# Altium footprint library Kondensator_DIP.PcbLib: 222 footprints (part 3 of 14)
Each footprint in its own frame and in the unit in brackets; x right, y up, seen from the top. Pads: shape width x height; smd on the part's side, far side on the other; paste and mask are expansions set on the pad; w line width, h text height; cw(c..) or ccw(c..) is an arc to the next point about the centre after c.
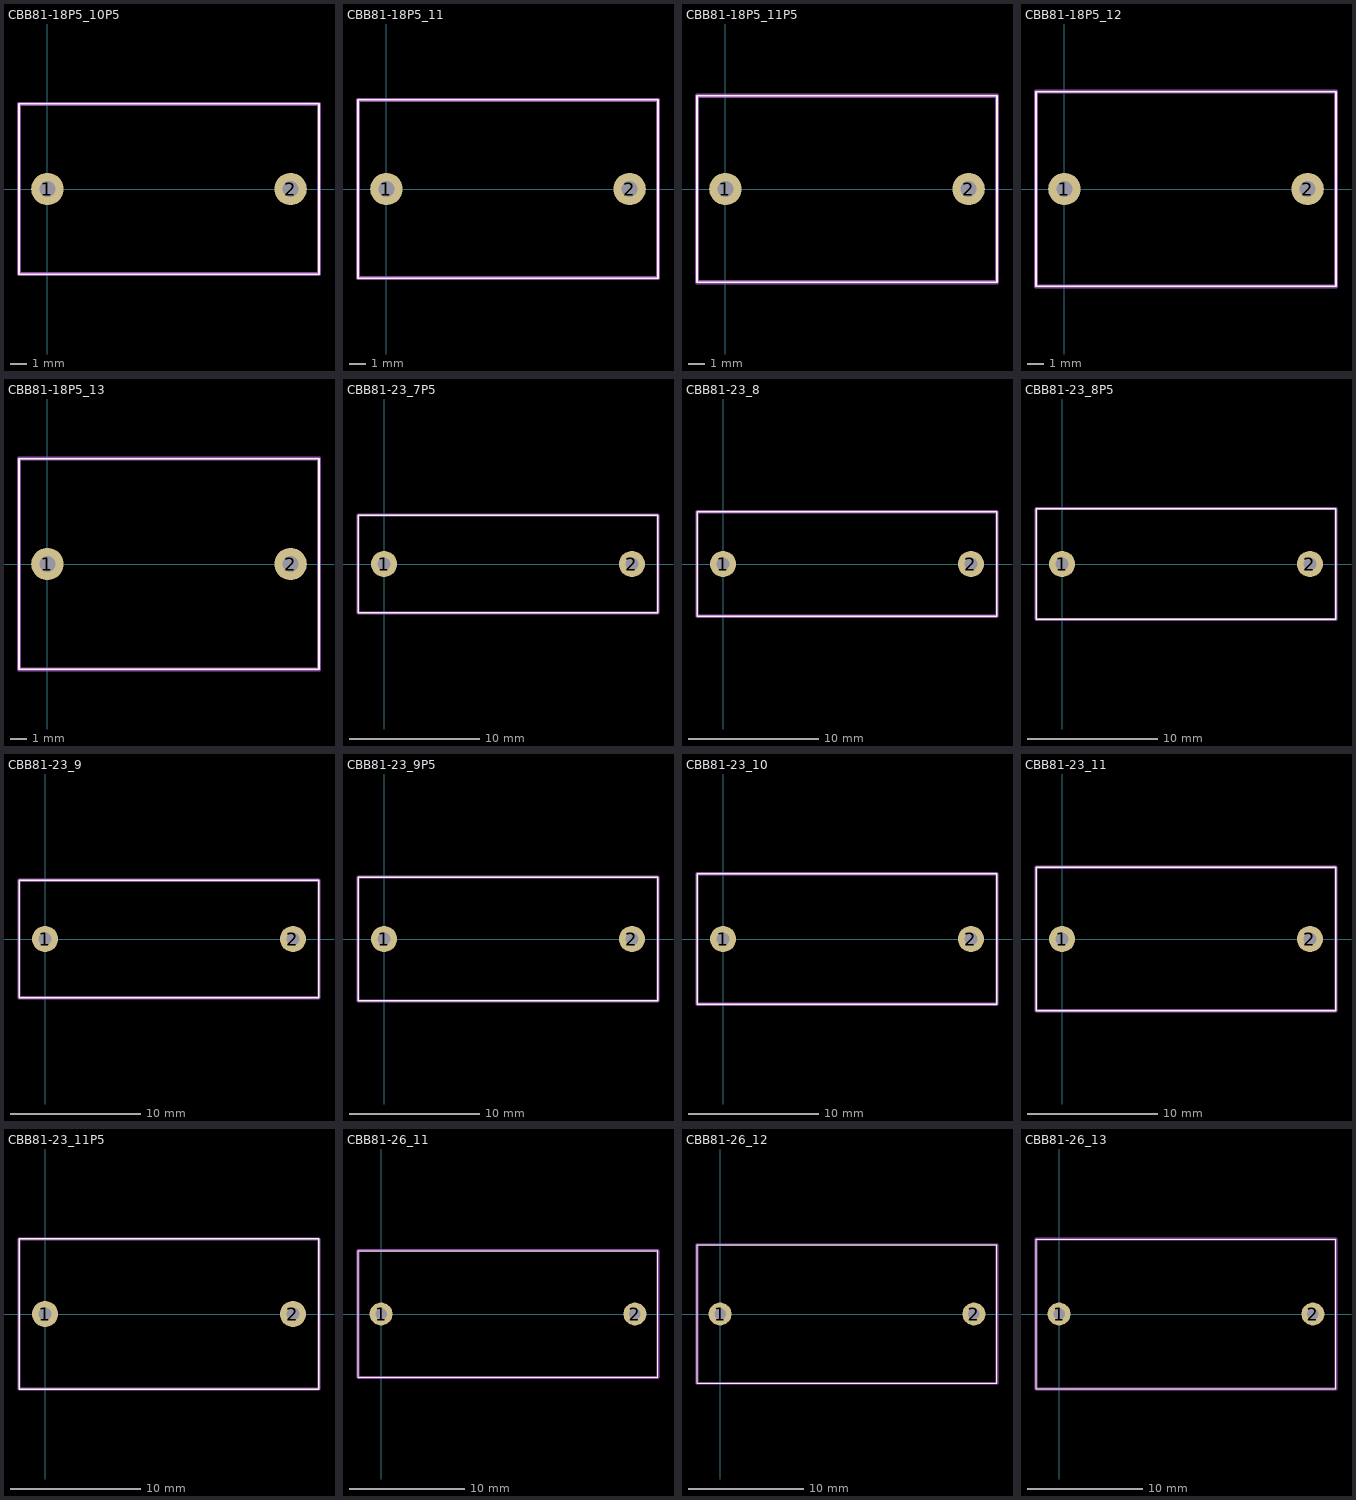
[diagram p2: the footprints below, top view; thin cyan lines are the x and y axes]

## CBB81-18P5_10P5 [mm]
pads (2):
  round 2 hole 1: 1(0,0) 2(15,0)
Top Overlay:
  lines w0.1: -1.75,-5.25 16.75,-5.25 16.75,5.25 -1.75,5.25 -1.75,-5.25
Mechanical 1:
  lines w0.25: -1.75,-5.25 16.75,-5.25 16.75,5.25 -1.75,5.25 -1.75,-5.25

## CBB81-18P5_11 [mm]
pads (2):
  round 2 hole 1: 1(0,0) 2(15,0)
Top Overlay:
  lines w0.1: -1.75,-5.5 16.75,-5.5 16.75,5.5 -1.75,5.5 -1.75,-5.5
Mechanical 1:
  lines w0.25: -1.75,-5.5 16.75,-5.5 16.75,5.5 -1.75,5.5 -1.75,-5.5

## CBB81-18P5_11P5 [mm]
pads (2):
  round 2 hole 1: 1(0,0) 2(15,0)
Top Overlay:
  lines w0.1: -1.75,-5.75 16.75,-5.75 16.75,5.75 -1.75,5.75 -1.75,-5.75
Mechanical 1:
  lines w0.25: -1.75,-5.75 16.75,-5.75 16.75,5.75 -1.75,5.75 -1.75,-5.75

## CBB81-18P5_12 [mm]
pads (2):
  round 2 hole 1: 1(0,0) 2(15,0)
Top Overlay:
  lines w0.1: -1.75,-6 16.75,-6 16.75,6 -1.75,6 -1.75,-6
Mechanical 1:
  lines w0.25: -1.75,-6 16.75,-6 16.75,6 -1.75,6 -1.75,-6

## CBB81-18P5_13 [mm]
pads (2):
  round 2 hole 1: 1(0,0) 2(15,0)
Top Overlay:
  lines w0.1: -1.75,-6.5 16.75,-6.5 16.75,6.5 -1.75,6.5 -1.75,-6.5
Mechanical 1:
  lines w0.25: -1.75,-6.5 16.75,-6.5 16.75,6.5 -1.75,6.5 -1.75,-6.5

## CBB81-23_7P5 [mm]
pads (2):
  round 2 hole 1: 1(0,0) 2(19,0)
Top Overlay:
  lines w0.1: -2,-3.75 21,-3.75 21,3.75 -2,3.75 -2,-3.75
Mechanical 1:
  lines w0.25: -2,-3.75 21,-3.75 21,3.75 -2,3.75 -2,-3.75

## CBB81-23_8 [mm]
pads (2):
  round 2 hole 1: 1(0,0) 2(19,0)
Top Overlay:
  lines w0.1: -2,-4 21,-4 21,4 -2,4 -2,-4
Mechanical 1:
  lines w0.25: -2,-4 21,-4 21,4 -2,4 -2,-4

## CBB81-23_8P5 [mm]
pads (2):
  round 2 hole 1: 1(0,0) 2(19,0)
Top Overlay:
  lines w0.1: -2,-4.25 21,-4.25 21,4.25 -2,4.25 -2,-4.25
Mechanical 1:
  lines w0.25: -2,-4.25 21,-4.25 21,4.25 -2,4.25 -2,-4.25

## CBB81-23_9 [mm]
pads (2):
  round 2 hole 1: 1(0,0) 2(19,0)
Top Overlay:
  lines w0.1: -2,-4.5 21,-4.5 21,4.5 -2,4.5 -2,-4.5
Mechanical 1:
  lines w0.25: -2,-4.5 21,-4.5 21,4.5 -2,4.5 -2,-4.5

## CBB81-23_9P5 [mm]
pads (2):
  round 2 hole 1: 1(0,0) 2(19,0)
Top Overlay:
  lines w0.1: -2,-4.75 21,-4.75 21,4.75 -2,4.75 -2,-4.75
Mechanical 1:
  lines w0.25: -2,-4.75 21,-4.75 21,4.75 -2,4.75 -2,-4.75

## CBB81-23_10 [mm]
pads (2):
  round 2 hole 1: 1(0,0) 2(19,0)
Top Overlay:
  lines w0.1: -2,-5 21,-5 21,5 -2,5 -2,-5
Mechanical 1:
  lines w0.25: -2,-5 21,-5 21,5 -2,5 -2,-5

## CBB81-23_11 [mm]
pads (2):
  round 2 hole 1: 1(0,0) 2(19,0)
Top Overlay:
  lines w0.1: -2,-5.5 21,-5.5 21,5.5 -2,5.5 -2,-5.5
Mechanical 1:
  lines w0.25: -2,-5.5 21,-5.5 21,5.5 -2,5.5 -2,-5.5

## CBB81-23_11P5 [mm]
pads (2):
  round 2 hole 1: 1(0,0) 2(19,0)
Top Overlay:
  lines w0.1: -2,-5.75 21,-5.75 21,5.75 -2,5.75 -2,-5.75
Mechanical 1:
  lines w0.25: -2,-5.75 21,-5.75 21,5.75 -2,5.75 -2,-5.75

## CBB81-26_11 [mm]
pads (2):
  round 2 hole 1: 1(0,0) 2(22,0)
Top Overlay:
  lines w0.1: -2,-5.5 24,-5.5 24,5.5 -2,5.5 -2,-5.5
Mechanical 1:
  lines w0.25: -2,-5.5 24,-5.5 24,5.5 -2,5.5 -2,-5.5

## CBB81-26_12 [mm]
pads (2):
  round 2 hole 1: 1(0,0) 2(22,0)
Top Overlay:
  lines w0.1: -2,-6 24,-6 24,6 -2,6 -2,-6
Mechanical 1:
  lines w0.25: -2,-6 24,-6 24,6 -2,6 -2,-6

## CBB81-26_13 [mm]
pads (2):
  round 2 hole 1: 1(0,0) 2(22,0)
Top Overlay:
  lines w0.1: -2,-6.5 24,-6.5 24,6.5 -2,6.5 -2,-6.5
Mechanical 1:
  lines w0.25: -2,-6.5 24,-6.5 24,6.5 -2,6.5 -2,-6.5